# EAGLE library part ADC-ADS101/111X (library FlashPCB_ICs)
ADS101x - IC ADC 12BIT SIGMA-DELTA Technical Specifications: Analog to Digital Converter, 12bit I2C Interface Internal Voltage Reference, Internal Oscillator Four Single-Ended or Two Differential Inputs(ADS1015) Supply Voltage: 2V~5.5V Sampling Rate: Up to 3.3k Samples Per Second (3300Hz) Component Search: ADS101x <[FLASHPCB URL]> Datasheet: ADS101x Ultra-Small, Low-Power, I2C-Compatible, 3.3-kSPS, 12-Bit ADCs With Internal Reference, Oscillator, and Programmable Comparator datasheet (Rev. E) <https://www.ti.com/lit/ds/symlink/ads1013.pdf?HQS=dis-dk-null-digikeymode-dsf-pf-null-wwe&ts=1681808725583&ref_url=https%253A%252F%252Fwww.ti.com%252Fgeneral%252Fdocs%252Fsuppproductinfo.tsp%253FdistId%253D10%2526gotoUrl%253Dhttps%253A%252F%252Fwww.ti.com%252Flit%252Fgpn%252Fads1013> ADS111x - IC ADC 16BIT SIGMA-DELTA Technical Specifications: Analog to Digital Converter, 16bit I2C Interface Internal Voltage Reference, Internal Oscillator Four Single-Ended or Two Differential Inputs(ADS1115) Supply Voltage: 2V~5.5V Sampling Rate: Up to 860 Samples Per Second (860Hz) Component Search: ADS111x <[FLASHPCB URL]> Datasheet: ADS111x Ultra-Small, Low-Power, I2C-Compatible, 860-SPS, 16-Bit ADCs With Internal Reference, Oscillator, and Programmable Comparator datasheet (Rev. D) <https://www.ti.com/lit/ds/symlink/ads1113.pdf?HQS=dis-dk-null-digikeymode-dsf-pf-null-wwe&ts=1681831810159&ref_url=https%253A%252F%252Fwww.ti.com%252Fgeneral%252Fdocs%252Fsuppproductinfo.tsp%253FdistId%253D10%2526gotoUrl%253Dhttps%253A%252F%252Fwww.ti.com%252Flit%252Fgpn%252Fads1113>
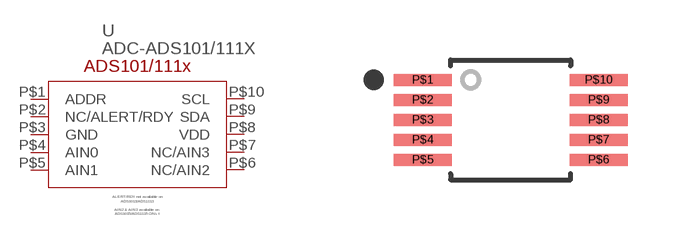
[diagram p9: symbol with the pads of VSSOP-10; footprint VSSOP-10]

Designator prefix U

## ADC-ADS101/111X5IDGST  [VSSOP-10]
P$1  ADDR
P$2  NC/ALERT/RDY
P$3  GND
P$4  AIN0
P$5  AIN1
P$6  NC/AIN2
P$7  NC/AIN3
P$8  VDD
P$9  SDA
P$10  SCL

## Footprint VSSOP-10 (pad centres in mm)
smd 1.45 x 0.3: P$1 -2.2,1; P$2 -2.2,0.5; P$3 -2.2,0; P$4 -2.2,-0.5; P$5 -2.2,-1; P$6 2.2,-1; P$7 2.2,-0.5; P$8 2.2,0; P$9 2.2,0.5; P$10 2.2,1